# Altium footprint library Kanaloa_v2.0.0_Motor.PcbLib: 76 footprints (part 1 of 5)
Each footprint in its own frame and in the unit in brackets; x right, y up, seen from the top. Pads: shape width x height; smd on the part's side, far side on the other; paste and mask are expansions set on the pad; w line width, h text height; cw(c..) or ccw(c..) is an arc to the next point about the centre after c.
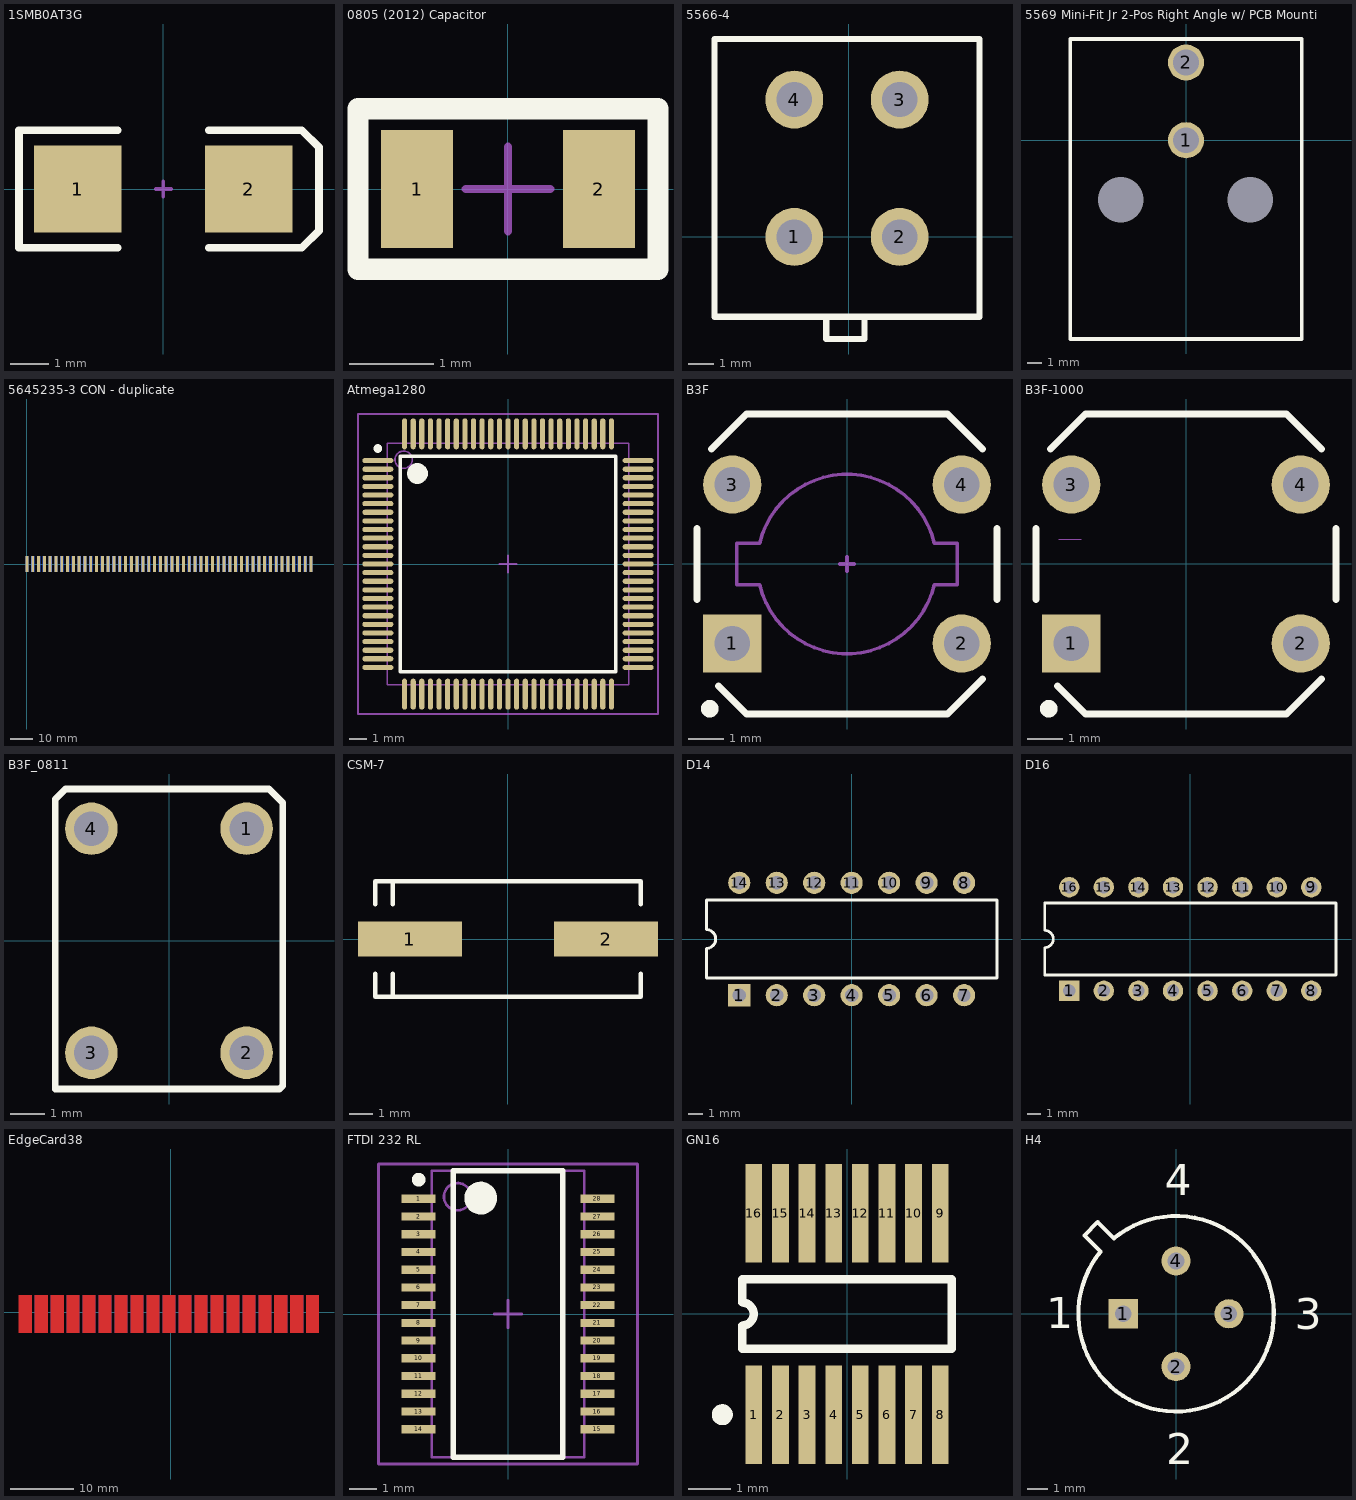
[diagram p0: the footprints below, top view; thin cyan lines are the x and y axes]

## 1SMB0AT3G [mm] "DO-214-AA/SMB; 2 C-Bend Leads; Body 5.3 x 3.6 mm, inc. leads (LxW)"
height 2.54
pads (2):
  rect 2.3x2.3 smd: 1(-2.25,0) 2(2.25,0)
Top Overlay:
  lines w0.2: -1.2,-1.55 -3.8,-1.55 -3.8,1.55 -1.2,1.55 ; 1.2,-1.55 3.65,-1.55 4.1,-1.1 4.1,1.1 3.65,1.55 1.2,1.55
Mechanical 1:
  lines w0.1: -0.2,0 0.2,0 ; 0,-0.2 0,0.2
3D body: height 2.27, standoff -0.03, extent -2.751,-1.775 2.649,1.825

## 0805 (2012) Capacitor [mm] "0805 (2012) Capacitor"
height 0.6
pads (2):
  rect 0.85x1.4 smd: 1(-1.075,0) 2(1.075,0)
Top Overlay:
  lines w0.254: -1.775,-0.95 1.775,-0.95 1.775,0.95 -1.775,0.95 -1.775,-0.95
Mechanical 15:
  lines w0.1: -0.5,0 0.5,0 ; 0,-0.5 0,0.5 ; -1.775,-0.95 1.775,-0.95 1.775,0.95 -1.775,0.95 -1.775,-0.95
3D body: height 0.85, standoff 0, extent -1.188,-0.65 -0.813,0.65
3D body: height 0.85, standoff 0, extent -1.1,-0.635 1.1,0.635
3D body: height 0.85, standoff 0, extent 0.813,-0.65 1.188,0.65

## 5566-4 [mm]
pads (4):
  round 2.3 hole 1.4: 1(-2.159,0) 2(2.032,0) 3(2.032,5.461) 4(-2.159,5.461)
Top Overlay:
  lines w0.254: -0.889,-3.175 -0.889,-4.064 0.635,-4.064 0.635,-3.302 ; -5.334,-3.175 5.207,-3.175 5.207,7.874 -5.334,7.874 -5.334,-3.175
3D body: height 12.8, standoff -3.5, extent -5.334,-3.253 5.066,7.747

## 5569 Mini-Fit Jr 2-Pos Right Angle w/ PCB Mounting Flange [mm] "4.20mm (.165\") Pitch Mini-Fit Jr.™ Header, Dual Row, Right Angle, with PCB Mounting Flange, 2 Circuits, PA Polyamide Nylon 6/6 94V-0, Tin (Sn) Plating"
pads (4):
  round 2.54 hole 1.8 unplated: 1(0,0) 2(0,5.461)
  round 0 hole 3.2 unplated: ""(-4.572,-4.191) ""(4.5,-4.2)
Top Overlay:
  lines w0.254: -8.128,-13.97 8.128,-13.97 8.128,7.112 -8.128,7.112 -8.128,-13.97
3D body: height 11.4, standoff -3.5, extent -7.675,-13.95 7.725,5.95

## 5645235-3 CON - duplicate [mm]
pads (100):
  rect 1.27x6.985 smd: 0(0,0) 1(2.54,0) 2(5.08,0) 3(7.62,0) 4(10.16,0) 5(12.7,0) 6(15.24,0) 7(17.78,0) 8(20.32,0) 9(22.86,0) 10(25.4,0) 11(27.94,0) 12(30.48,0) 13(33.02,0) 14(35.56,0) 15(38.1,0) 16(40.64,0) 17(43.18,0) 18(45.72,0) 19(48.26,0) 20(50.8,0) 21(53.34,0) 22(55.88,0) 23(58.42,0) 24(60.96,0) 25(63.5,0) 26(66.04,0) 27(68.58,0) 28(71.12,0) 29(73.66,0) 30(76.2,0) 31(78.74,0) 32(81.28,0) 33(83.82,0) 34(86.36,0) 35(88.9,0) 36(91.44,0) 37(93.98,0) 38(96.52,0) 39(99.06,0) 40(101.6,0) 41(104.14,0) 42(106.68,0) 43(109.22,0) 44(111.76,0) 45(114.3,0) 46(116.84,0) 47(119.38,0) 48(121.92,0) 49(124.46,0)
  rect 1.27x6.985 smd far side: 50(0,0) 51(2.54,0) 52(5.08,0) 53(7.62,0) 54(10.16,0) 55(12.7,0) 56(15.24,0) 57(17.78,0) 58(20.32,0) 59(22.86,0) 60(25.4,0) 61(27.94,0) 62(30.48,0) 63(33.02,0) 64(35.56,0) 65(38.1,0) 66(40.64,0) 67(43.18,0) 68(45.72,0) 69(48.26,0) 70(50.8,0) 71(53.34,0) 72(55.88,0) 73(58.42,0) 74(60.96,0) 75(63.5,0) 76(66.04,0) 77(68.58,0) 78(71.12,0) 79(73.66,0) 80(76.2,0) 81(78.74,0) 82(81.28,0) 83(83.82,0) 84(86.36,0) 85(88.9,0) 86(91.44,0) 87(93.98,0) 88(96.52,0) 89(99.06,0) 90(101.6,0) 91(104.14,0) 92(106.68,0) 93(109.22,0) 94(111.76,0) 95(114.3,0) 96(116.84,0) 97(119.38,0) 98(121.92,0) 99(124.46,0)

## Atmega1280 [mm] "TSQFP, 100-Leads, Body 14x14mm (max), Pitch 0.50mm, IPC Medium Density"
height 1.2
pads (100):
  oval 1.8x0.3 smd: 1(-7.55,6) 2(-7.55,5.5) 3(-7.55,5) 4(-7.55,4.5) 5(-7.55,4) 6(-7.55,3.5) 7(-7.55,3) 8(-7.55,2.5) 9(-7.55,2) 10(-7.55,1.5) 11(-7.55,1) 12(-7.55,0.5) 13(-7.55,0) 14(-7.55,-0.5) 15(-7.55,-1) 16(-7.55,-1.5) 17(-7.55,-2) 18(-7.55,-2.5) 19(-7.55,-3) 20(-7.55,-3.5) 21(-7.55,-4) 22(-7.55,-4.5) 23(-7.55,-5) 24(-7.55,-5.5) 25(-7.55,-6) 51(7.55,-6) 52(7.55,-5.5) 53(7.55,-5) 54(7.55,-4.5) 55(7.55,-4) 56(7.55,-3.5) 57(7.55,-3) 58(7.55,-2.5) 59(7.55,-2) 60(7.55,-1.5) 61(7.55,-1) 62(7.55,-0.5) 63(7.55,0) 64(7.55,0.5) 65(7.55,1) 66(7.55,1.5) 67(7.55,2) 68(7.55,2.5) 69(7.55,3) 70(7.55,3.5) 71(7.55,4) 72(7.55,4.5) 73(7.55,5) 74(7.55,5.5) 75(7.55,6)
  oval 0.3x1.8 smd: 26(-6,-7.55) 27(-5.5,-7.55) 28(-5,-7.55) 29(-4.5,-7.55) 30(-4,-7.55) 31(-3.5,-7.55) 32(-3,-7.55) 33(-2.5,-7.55) 34(-2,-7.55) 35(-1.5,-7.55) 36(-1,-7.55) 37(-0.5,-7.55) 38(0,-7.55) 39(0.5,-7.55) 40(1,-7.55) 41(1.5,-7.55) 42(2,-7.55) 43(2.5,-7.55) 44(3,-7.55) 45(3.5,-7.55) 46(4,-7.55) 47(4.5,-7.55) 48(5,-7.55) 49(5.5,-7.55) 50(6,-7.55) 76(6,7.55) 77(5.5,7.55) 78(5,7.55) 79(4.5,7.55) 80(4,7.55) 81(3.5,7.55) 82(3,7.55) 83(2.5,7.55) 84(2,7.55) 85(1.5,7.55) 86(1,7.55) 87(0.5,7.55) 88(0,7.55) 89(-0.5,7.55) 90(-1,7.55) 91(-1.5,7.55) 92(-2,7.55) 93(-2.5,7.55) 94(-3,7.55) 95(-3.5,7.55) 96(-4,7.55) 97(-4.5,7.55) 98(-5,7.55) 99(-5.5,7.55) 100(-6,7.55)
Top Overlay:
  circle w0.6: c-5.25,5.25 r0.3
  circle w0.25: c-7.55,6.7 r0.125
  lines w0.2: -6.25,-6.25 6.25,-6.25 6.25,6.25 -6.25,6.25 -6.25,-6.25
Mechanical 13:
  circle w0.1: c-6.05,6.05 r0.5
  lines w0.1: -7,-7 7,-7 7,7 -7,7 -7,-7
Mechanical 15:
  lines w0.1: -0.5,0 0.5,0 ; 0,-0.5 0,0.5 ; -8.7,-8.7 8.7,-8.7 8.7,8.7 -8.7,8.7 -8.7,-8.7
3D body: height 1.03, standoff -0.03, extent -8,-7.999 8,8.001

## B3F [mm]
pads (4):
  rect 1.65x1.65 hole 1: 1(-3.25,-2.25)
  round 1.65 hole 1: 2(3.25,-2.25) 3(-3.25,2.25) 4(3.25,2.25)
Top Overlay:
  circle w0.25: c-3.891,-4.1 r0.125
  lines w0.2: -4.25,-1 -4.25,1 ; -3.837,3.263 -2.85,4.25 2.85,4.25 3.837,3.263 ; -3.638,-3.458 -2.85,-4.25 2.85,-4.25 3.837,-3.263 ; 4.25,-1 4.25,1
Mechanical 1:
  lines w0.1: -3.124,-0.584 -3.124,0.584 ; -3.119,-0.584 -2.489,-0.584 ; -3.119,0.584 -2.489,0.584 ; -2.476,-0.583 ccw(c-0.001,0) 2.473,-0.583 ; -2.474,0.583 cw(c0,0) 2.474,0.583 ; -0.2,0 0.2,0 ; 0,-0.2 0,0.2 ; 2.489,-0.584 3.119,-0.584 ; 2.489,0.584 3.119,0.584 ; 3.124,-0.584 3.124,0.584

## B3F-1000 [mm] "OMRON Electronics Pushbutton Tactile SPST-NO 0.05A 24V"
pads (4):
  rect 1.65x1.65 hole 1: 1(-3.25,-2.25)
  round 1.65 hole 1: 2(3.25,-2.25) 3(-3.25,2.25) 4(3.25,2.25)
Top Overlay:
  circle w0.25: c-3.891,-4.1 r0.125
  lines w0.2: -4.25,-1 -4.25,1 ; -3.837,3.263 -2.85,4.25 2.85,4.25 3.837,3.263 ; -3.638,-3.458 -2.85,-4.25 2.85,-4.25 3.837,-3.263 ; 4.25,-1 4.25,1
Mechanical 1:
  lines w0: -3.6,0.7 -2.97,0.7
3D body: height 4.3, standoff -3.5, extent -3.814,-3 3.886,3

## B3F_0811 [mm]
pads (4):
  round 1.524 hole 1: 1(2.25,3.25) 2(2.25,-3.25) 3(-2.25,-3.25) 4(-2.25,3.25)
Top Overlay:
  lines w0.2: -3.3,-4.3 3.2,-4.3 3.3,-4.2 3.3,4 2.9,4.4 -3,4.4 -3.3,4.1 -3.3,4 -3.3,-4.3
3D body: height 3.4, standoff 0, extent -3,-3 3,3

## CSM-7 [mm] "Quartz Crystal, SM; 2 Leads; Body 11.4 x 4.8 x 5 mm (LxWxH)"
height 5
pads (2):
  rect 4.5x1.5 smd: 1(-4.25,0) 2(4.25,0)
Top Overlay:
  lines w0.2: -5.75,-1.5 -5.75,-2.5 5.75,-2.5 5.75,-1.5 ; -5.75,1.5 -5.75,2.5 5.75,2.5 5.75,1.5 ; -5,-2.5 -5,-1.5 ; -5,1.5 -5,2.5

## D14 [mm] "DIP, Side-Brazed (Hermetic); 14 Leads; Row Spacing 7.62 mm; Pitch 2.54 mm"
height 4.2
pads (14):
  rect 1.5x1.5 hole 0.9: 1(-7.62,-3.81)
  round 1.5 hole 0.9: 2(-5.08,-3.81) 3(-2.54,-3.81) 4(0,-3.81) 5(2.54,-3.81) 6(5.08,-3.81) 7(7.62,-3.81) 8(7.62,3.81) 9(5.08,3.81) 10(2.54,3.81) 11(0,3.81) 12(-2.54,3.81) 13(-5.08,3.81) 14(-7.62,3.81)
Top Overlay:
  lines w0.2: -9.85,-2.65 9.85,-2.65 9.85,2.65 -9.85,2.65 -9.85,0.635 cw(c-9.85,0) -9.85,-0.635 -9.85,-2.65

## D16 [mm] "DIP, Side-Brazed (Hermetic); 16 Leads; Row Spacing 7.62 mm; Pitch 2.54 mm"
height 4.2
pads (16):
  rect 1.5x1.5 hole 0.9: 1(-8.89,-3.81)
  round 1.5 hole 0.9: 2(-6.35,-3.81) 3(-3.81,-3.81) 4(-1.27,-3.81) 5(1.27,-3.81) 6(3.81,-3.81) 7(6.35,-3.81) 8(8.89,-3.81) 9(8.89,3.81) 10(6.35,3.81) 11(3.81,3.81) 12(1.27,3.81) 13(-1.27,3.81) 14(-3.81,3.81) 15(-6.35,3.81) 16(-8.89,3.81)
Top Overlay:
  lines w0.2: -10.7,-2.65 10.7,-2.65 10.7,2.65 -10.7,2.65 -10.7,0.635 cw(c-10.7,0) -10.7,-0.635 -10.7,-2.65

## EdgeCard38 [mm]
Top Layer:
  region: -24.1,-3.3 -22.1,-3.3 -22.1,2.7 -24.1,2.7
  region: -21.56,-3.3 -19.56,-3.3 -19.56,2.7 -21.56,2.7
  region: -19.02,-3.3 -17.02,-3.3 -17.02,2.7 -19.02,2.7
  region: -16.48,-3.3 -14.48,-3.3 -14.48,2.7 -16.48,2.7
  region: -13.94,-3.3 -11.94,-3.3 -11.94,2.7 -13.94,2.7
  region: -11.4,-3.3 -9.4,-3.3 -9.4,2.7 -11.4,2.7
  region: -8.86,-3.3 -6.86,-3.3 -6.86,2.7 -8.86,2.7
  region: -6.32,-3.3 -4.32,-3.3 -4.32,2.7 -6.32,2.7
  region: -3.78,-3.3 -1.78,-3.3 -1.78,2.7 -3.78,2.7
  region: -1.24,-3.3 0.76,-3.3 0.76,2.7 -1.24,2.7
  region: 1.3,-3.3 3.3,-3.3 3.3,2.7 1.3,2.7
  region: 3.84,-3.3 5.84,-3.3 5.84,2.7 3.84,2.7
  region: 6.38,-3.3 8.38,-3.3 8.38,2.7 6.38,2.7
  region: 8.92,-3.3 10.92,-3.3 10.92,2.7 8.92,2.7
  region: 11.46,-3.3 13.46,-3.3 13.46,2.7 11.46,2.7
  region: 14,-3.3 16,-3.3 16,2.7 14,2.7
  region: 16.54,-3.3 18.54,-3.3 18.54,2.7 16.54,2.7
  region: 19.08,-3.3 21.08,-3.3 21.08,2.7 19.08,2.7
  region: 21.62,-3.3 23.62,-3.3 23.62,2.7 21.62,2.7
Bottom Layer:
  region: -1.24,-3.3 0.76,-3.3 0.76,2.7 -1.24,2.7
  region: -24.1,-3.3 -22.1,-3.3 -22.1,2.7 -24.1,2.7
  region: -21.56,-3.3 -19.56,-3.3 -19.56,2.7 -21.56,2.7
  region: -19.02,-3.3 -17.02,-3.3 -17.02,2.7 -19.02,2.7
  region: -16.48,-3.3 -14.48,-3.3 -14.48,2.7 -16.48,2.7
  region: -13.94,-3.3 -11.94,-3.3 -11.94,2.7 -13.94,2.7
  region: -11.4,-3.3 -9.4,-3.3 -9.4,2.7 -11.4,2.7
  region: -8.86,-3.3 -6.86,-3.3 -6.86,2.7 -8.86,2.7
  region: -6.32,-3.3 -4.32,-3.3 -4.32,2.7 -6.32,2.7
  region: -3.78,-3.3 -1.78,-3.3 -1.78,2.7 -3.78,2.7
  region: 1.3,-3.3 3.3,-3.3 3.3,2.7 1.3,2.7
  region: 3.84,-3.3 5.84,-3.3 5.84,2.7 3.84,2.7
  region: 6.38,-3.3 8.38,-3.3 8.38,2.7 6.38,2.7
  region: 8.92,-3.3 10.92,-3.3 10.92,2.7 8.92,2.7
  region: 11.46,-3.3 13.46,-3.3 13.46,2.7 11.46,2.7
  region: 14,-3.3 16,-3.3 16,2.7 14,2.7
  region: 16.54,-3.3 18.54,-3.3 18.54,2.7 16.54,2.7
  region: 19.08,-3.3 21.08,-3.3 21.08,2.7 19.08,2.7
  region: 21.62,-3.3 23.62,-3.3 23.62,2.7 21.62,2.7

## FTDI 232 RL [mm] "SOP, 28-Leads, Body 10.5x5.6mm (max), Pitch 0.65mm, IPC Medium Density"
height 2
pads (28):
  rect 1.25x0.3 smd: 1(-3.275,4.225) 2(-3.275,3.575) 3(-3.275,2.925) 4(-3.275,2.275) 5(-3.275,1.625) 6(-3.275,0.975) 7(-3.275,0.325) 8(-3.275,-0.325) 9(-3.275,-0.975) 10(-3.275,-1.625) 11(-3.275,-2.275) 12(-3.275,-2.925) 13(-3.275,-3.575) 14(-3.275,-4.225) 15(3.275,-4.225) 16(3.275,-3.575) 17(3.275,-2.925) 18(3.275,-2.275) 19(3.275,-1.625) 20(3.275,-0.975) 21(3.275,-0.325) 22(3.275,0.325) 23(3.275,0.975) 24(3.275,1.625) 25(3.275,2.275) 26(3.275,2.925) 27(3.275,3.575) 28(3.275,4.225)
Top Overlay:
  circle w0.6: c-1,4.25 r0.3
  circle w0.25: c-3.275,4.925 r0.125
  lines w0.2: -2,-5.25 2,-5.25 2,5.25 -2,5.25 -2,-5.25
Mechanical 13:
  circle w0.1: c-1.85,4.3 r0.5
  lines w0.1: -2.8,-5.25 2.8,-5.25 2.8,5.25 -2.8,5.25 -2.8,-5.25
Mechanical 15:
  lines w0.1: -0.5,0 0.5,0 ; 0,-0.5 0,0.5 ; -4.75,-5.5 4.75,-5.5 4.75,5.5 -4.75,5.5 -4.75,-5.5
3D body: height 1.98, standoff -0.02, extent -3.931,-5.095 3.881,5.105

## GN16 [mm] "SSOP; 16 Leads; Body Width 3.9 mm; Pitch 0.635 mm"
height 1.73
pads (16):
  rect 0.4x2.35 smd: 1(-2.222,-2.4) 2(-1.587,-2.4) 3(-0.953,-2.4) 4(-0.318,-2.4) 5(0.318,-2.4) 6(0.953,-2.4) 7(1.587,-2.4) 8(2.222,-2.4) 9(2.222,2.4) 10(1.587,2.4) 11(0.953,2.4) 12(0.318,2.4) 13(-0.318,2.4) 14(-0.953,2.4) 15(-1.587,2.4) 16(-2.222,2.4)
Top Overlay:
  circle w0.25: c-2.973,-2.4 r0.125
  lines w0.2: -2.5,-0.825 -2.5,-0.275 ccw(c-2.5,0) -2.5,0.275 -2.5,0.825 2.5,0.825 2.5,-0.825 -2.5,-0.825

## H4 [mm] "Can; 4 Leads; Pin Circle Dia. 5.08 mm; Lead Dia. 0.48 mm (max)"
height 4.7
pads (4):
  rect 1.4x1.4 hole 0.8: 1(-2.54,0)
  round 1.4 hole 0.8: 2(0,-2.54) 3(2.54,0) 4(0,2.54)
Top Overlay:
  lines w0.2: -4.404,3.768 -3.768,4.404 -2.99,3.626 cw(c0,0) -3.626,2.99 -4.404,3.768
  text "1" at -6.238,-0.697 h1.5
  text "2" at -0.469,-7.221 h1.5
  text "3" at 5.694,-0.751 h1.5
  text "4" at -0.541,5.701 h1.5